# EAGLE library part CON_P2X23 (library akita)
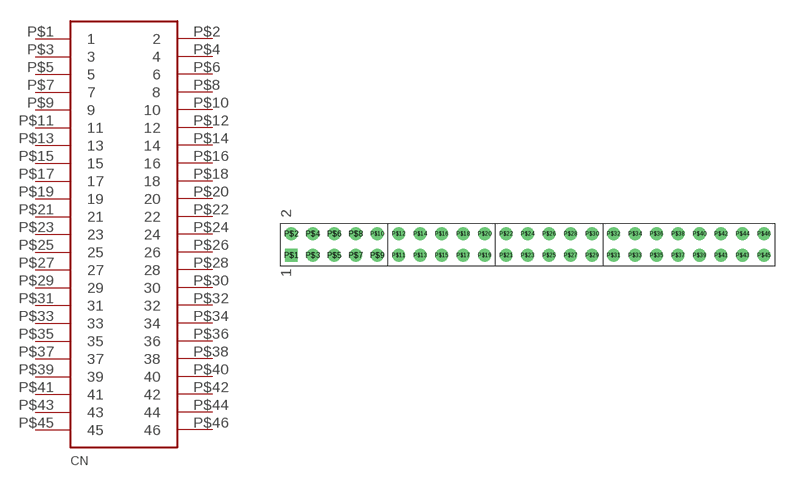
[diagram p120: symbol with the pads of 2X23R; footprint 2X23R]

Designator prefix CN

## CON_P2X23  [2X23R]
P$1  1
P$2  2
P$3  3
P$4  4
P$5  5
P$6  6
P$7  7
P$8  8
P$9  9
P$10  10
P$11  11
P$12  12
P$13  13
P$14  14
P$15  15
P$16  16
P$17  17
P$18  18
P$19  19
P$20  20
P$21  21
P$22  22
P$23  23
P$24  24
P$25  25
P$26  26
P$27  27
P$28  28
P$29  29
P$30  30
P$31  31
P$32  32
P$33  33
P$34  34
P$35  35
P$36  36
P$37  37
P$38  38
P$39  39
P$40  40
P$41  41
P$42  42
P$43  43
P$44  44
P$45  45
P$46  46

## Footprint 2X23R (pad centres in mm)
drill 1 square: P$1 -27.94,-1.27
drill 1: P$2 -27.94,1.27; P$3 -25.4,-1.27; P$4 -25.4,1.27; P$5 -22.86,-1.27; P$6 -22.86,1.27; P$7 -20.32,-1.27; P$8 -20.32,1.27; P$9 -17.78,-1.27; P$10 -17.78,1.27; P$11 -15.24,-1.27; P$12 -15.24,1.27; P$13 -12.7,-1.27; P$14 -12.7,1.27; P$15 -10.16,-1.27; P$16 -10.16,1.27; P$17 -7.62,-1.27; P$18 -7.62,1.27; P$19 -5.08,-1.27; P$20 -5.08,1.27; P$21 -2.54,-1.27; P$22 -2.54,1.27; P$23 0,-1.27; P$24 0,1.27; P$25 2.54,-1.27; P$26 2.54,1.27; P$27 5.08,-1.27; P$28 5.08,1.27; P$29 7.62,-1.27; P$30 7.62,1.27; P$31 10.16,-1.27; P$32 10.16,1.27; P$33 12.7,-1.27; P$34 12.7,1.27; P$35 15.24,-1.27; P$36 15.24,1.27; P$37 17.78,-1.27; P$38 17.78,1.27; P$39 20.32,-1.27; P$40 20.32,1.27; P$41 22.86,-1.27; P$42 22.86,1.27; P$43 25.4,-1.27; P$44 25.4,1.27; P$45 27.94,-1.27; P$46 27.94,1.27